# EAGLE library part 71918-108LF (library FCI-tkr)
LATCH HEADER, STRAIGHT
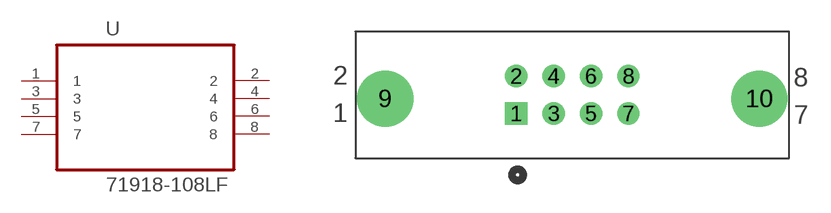
[diagram p21: symbol with the pads of FCI_71918-108LF; footprint FCI_71918-108LF]

Designator prefix U

## 71918-108LF (MPN: 71918-108LF; OC_FARNELL: 1691940; OC_NEWARK: 62K7319; PACKAGE: CON-8WAYS; SUPPLIER: FCI)  [FCI_71918-108LF]
1  1  pas
2  2  pas
3  3  pas
4  4  pas
5  5  pas
6  6  pas
7  7  pas
8  8  pas

## Footprint FCI_71918-108LF (pad centres in mm)
drill 1.016 square: 1 -7.62,-2.54
drill 1.016: 2 -7.62,0; 3 -5.08,-2.54; 4 -5.08,0; 5 -2.54,-2.54; 6 -2.54,0; 7 0,-2.54; 8 0,0
drill 2.794: 9 -16.51,-1.524; 10 8.89,-1.524